# Altium footprint library SOIC.PcbLib: 11 footprints
Each footprint in its own frame and in the unit in brackets; x right, y up, seen from the top. Pads: shape width x height; smd on the part's side, far side on the other; paste and mask are expansions set on the pad; w line width, h text height; cw(c..) or ccw(c..) is an arc to the next point about the centre after c.
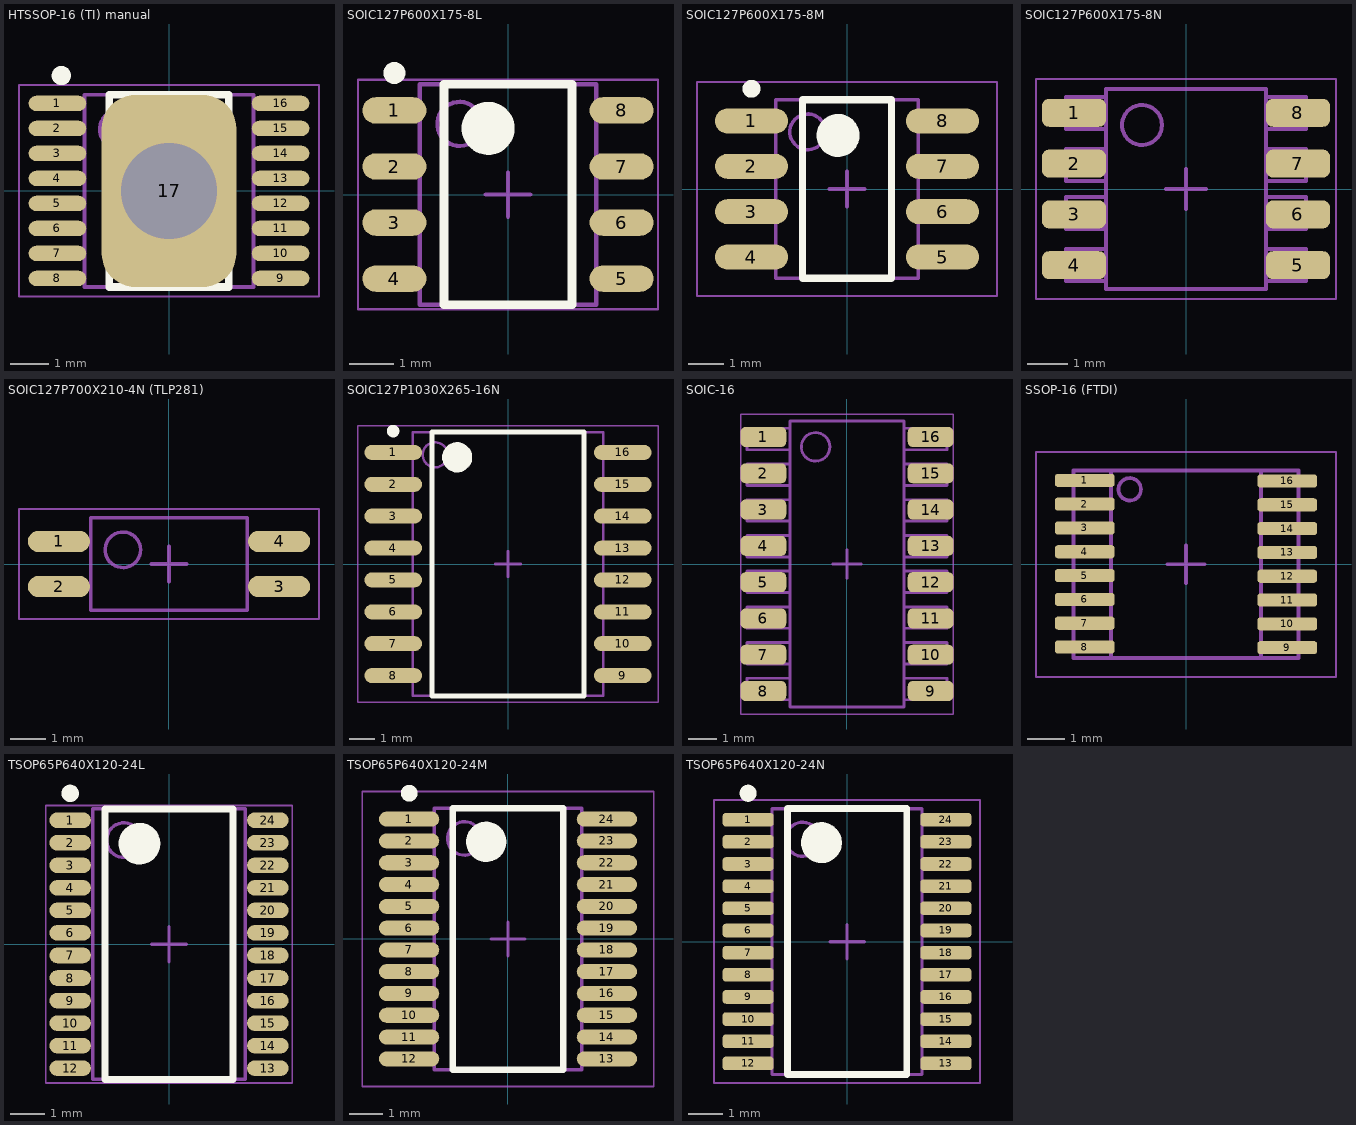
[diagram p0: the footprints below, top view; thin cyan lines are the x and y axes]

## HTSSOP-16 (TI) manual [mm] "TSOP, 16-Leads, Body 5.00x4.40mm, Pitch 0.65mm, Thermal Pad 0.00.2x0.00.2mm, IPC Medium Density"
height 1.2
pads (17):
  oval 1.5x0.4 smd: 1(-2.9,2.275) 2(-2.9,1.625) 3(-2.9,0.975) 4(-2.9,0.325) 5(-2.9,-0.325) 6(-2.9,-0.975) 7(-2.9,-1.625) 8(-2.9,-2.275) 9(2.9,-2.275) 10(2.9,-1.625) 11(2.9,-0.975) 12(2.9,-0.325) 13(2.9,0.325) 14(2.9,0.975) 15(2.9,1.625) 16(2.9,2.275)
  rrect50% 3.5x5 hole 2.5: 17(0,0)
Top Overlay:
  circle w0.6: c-0.55,1.5 r0.3
  circle w0.25: c-2.8,3 r0.125
  lines w0.2: -1.55,-2.5 1.55,-2.5 1.55,2.5 -1.55,2.5 -1.55,-2.5
Mechanical 4:
  text ".Designator" at -2.25,-0.25 h1
Mechanical 13:
  circle w0.1: c-1.3,1.6 r0.5
  lines w0.1: -2.2,-2.5 2.2,-2.5 2.2,2.5 -2.2,2.5 -2.2,-2.5
Mechanical 15:
  lines w0.05: -3.9,-2.75 3.9,-2.75 3.9,2.75 -3.9,2.75 -3.9,-2.75
  lines w0.1: -0.5,0 0.5,0 ; 0,-0.5 0,0.5
3D body: height 1, standoff 0, extent -3.21,-2.5 3.211,2.5

## SOIC127P600X175-8L [mm] "SOIC, 8-Leads, Body 4.90x3.90mm, Pitch 1.27mm, IPC High Density"
height 1.75
pads (8):
  oval 1.45x0.6 smd: 1(-2.575,1.905) 2(-2.575,0.635) 3(-2.575,-0.635) 4(-2.575,-1.905) 5(2.575,-1.905) 6(2.575,-0.635) 7(2.575,0.635) 8(2.575,1.905)
Top Overlay:
  circle w0.25: c-2.575,2.755 r0.125
  circle w0.6: c-0.45,1.5 r0.3
  lines w0.2: -1.45,-2.5 -1.45,2.5 1.45,2.5 1.45,-2.5 -1.45,-2.5
Mechanical 13:
  circle w0.1: c-1.1,1.6 r0.5
  lines w0.1: -2,-2.5 -2,2.5 2,2.5 2,-2.5 -2,-2.5
Mechanical 15:
  lines w0.05: -3.4,-2.6 -3.4,2.6 3.4,2.6 3.4,-2.6 -3.4,-2.6
  lines w0.1: -0.5,0 0.5,0 ; 0,-0.5 0,0.5
3D body: height 1.75, standoff 0.1, extent -2,-2.5 2,2.5

## SOIC127P600X175-8M [mm] "SOIC, 8-Leads, Body 4.90x3.90mm, Pitch 1.27mm, IPC Low Density"
height 1.75
pads (8):
  oval 2.05x0.7 smd: 1(-2.675,1.905) 2(-2.675,0.635) 3(-2.675,-0.635) 4(-2.675,-1.905) 5(2.675,-1.905) 6(2.675,-0.635) 7(2.675,0.635) 8(2.675,1.905)
Top Overlay:
  circle w0.6: c-0.25,1.5 r0.3
  circle w0.25: c-2.675,2.805 r0.125
  lines w0.2: -1.25,-2.5 1.25,-2.5 1.25,2.5 -1.25,2.5 -1.25,-2.5
Mechanical 13:
  circle w0.1: c-1.1,1.6 r0.5
  lines w0.1: -2,-2.5 2,-2.5 2,2.5 -2,2.5 -2,-2.5
Mechanical 15:
  lines w0.05: -4.2,-3 4.2,-3 4.2,3 -4.2,3 -4.2,-3
  lines w0.1: -0.5,0 0.5,0 ; 0,-0.5 0,0.5
3D body: height 1.75, standoff 0.1, extent -2,-2.5 2,2.5

## SOIC127P600X175-8N [mm] "SOIC, 8-Leads, Body 4.90x3.90mm, Pitch 1.27mm, IPC Medium Density"
height 1.75
pads (8):
  rrect50% 1.6x0.7 smd: 1(-2.8,1.905) 2(-2.8,0.635) 3(-2.8,-0.635) 4(-2.8,-1.905) 5(2.8,-1.905) 6(2.8,-0.635) 7(2.8,0.635) 8(2.8,1.905)
Mechanical 4:
  text ".Designator" at -2.25,-0.25 h1
Mechanical 13:
  circle w0.1: c-1.1,1.6 r0.5
  lines w0.1: -2,-2.3 -3,-2.3 -3,-1.5 -2,-1.5 ; -2,-1 -3,-1 -3,-0.2 -2,-0.2 ; -2,0.2 -3,0.2 -3,1 -2,1 ; -2,1.5 -3,1.5 -3,2.3 -2,2.3 ; 2,-2.3 3,-2.3 3,-1.5 2,-1.5 ; 2,-1 3,-1 3,-0.2 2,-0.2 ; 2,0.2 3,0.2 3,1 2,1 ; 2,1.5 3,1.5 3,2.3 2,2.3 ; -2,-2.5 -2,2.5 2,2.5 2,-2.5 -2,-2.5
Mechanical 15:
  lines w0.05: -3.75,-2.75 -3.75,2.75 3.75,2.75 3.75,-2.75 -3.75,-2.75
  lines w0.1: -0.5,0 0.5,0 ; 0,-0.5 0,0.5
3D body: height 1.63, standoff 0, extent -3,-2.45 3,2.45

## SOIC127P700X210-4N (TLP281) [mm] "SOIC, 4-Leads, Body 2.60x4.40mm, Pitch 1.27mm, IPC Medium Density"
height 2.1
pads (4):
  oval 1.75x0.6 smd: 1(-3.1,0.635) 2(-3.1,-0.635) 3(3.1,-0.635) 4(3.1,0.635)
Mechanical 4:
  text ".Designator" at -2.25,-0.25 h1
Mechanical 13:
  circle w0.1: c-1.3,0.4 r0.5
  lines w0.1: -2.2,-1.3 -2.2,1.3 2.2,1.3 2.2,-1.3 -2.2,-1.3
Mechanical 15:
  lines w0.05: -4.225,-1.55 -4.225,1.55 4.225,1.55 4.225,-1.55 -4.225,-1.55
  lines w0.1: -0.5,0 0.5,0 ; 0,-0.5 0,0.5
3D body: height 2, standoff 0.1, extent -3.5,-1.3 3.5,1.3

## SOIC127P1030X265-16N [mm] "SOIC, 16-Leads, Body 10.30x7.50mm, Pitch 1.27mm, IPC Medium Density"
height 2.65
pads (16):
  oval 2.3x0.6 smd: 1(-4.575,4.445) 2(-4.575,3.175) 3(-4.575,1.905) 4(-4.575,0.635) 5(-4.575,-0.635) 6(-4.575,-1.905) 7(-4.575,-3.175) 8(-4.575,-4.445) 9(4.575,-4.445) 10(4.575,-3.175) 11(4.575,-1.905) 12(4.575,-0.635) 13(4.575,0.635) 14(4.575,1.905) 15(4.575,3.175) 16(4.575,4.445)
Top Overlay:
  circle w0.6: c-2.025,4.25 r0.3
  circle w0.25: c-4.575,5.295 r0.125
  lines w0.2: -3.025,-5.25 3.025,-5.25 3.025,5.25 -3.025,5.25 -3.025,-5.25
Mechanical 13:
  circle w0.1: c-2.9,4.35 r0.5
  lines w0.1: -3.8,-5.25 3.8,-5.25 3.8,5.25 -3.8,5.25 -3.8,-5.25
Mechanical 15:
  lines w0.05: -5.975,-5.5 5.975,-5.5 5.975,5.5 -5.975,5.5 -5.975,-5.5
  lines w0.1: -0.5,0 0.5,0 ; 0,-0.5 0,0.5
3D body: height 2.62, standoff -0.03, extent -5.315,-5.25 5.315,5.25

## SOIC-16 [mm] "SOIC, 16-Leads, Body 10.00x4.00mm, Pitch 1.27mm, IPC Medium Density"
height 2
pads (16):
  rrect50% 1.6x0.7 smd: 1(-2.925,4.445) 2(-2.925,3.175) 3(-2.925,1.905) 4(-2.925,0.635) 5(-2.925,-0.635) 6(-2.925,-1.905) 7(-2.925,-3.175) 8(-2.925,-4.445) 9(2.925,-4.445) 10(2.925,-3.175) 11(2.925,-1.905) 12(2.925,-0.635) 13(2.925,0.635) 14(2.925,1.905) 15(2.925,3.175) 16(2.925,4.445)
Mechanical 13:
  circle w0.1: c-1.1,4.1 r0.5
  lines w0.1: -2,-4.75 -3.5,-4.75 -3.5,-4 -2,-4 ; -2,-3.5 -3.5,-3.5 -3.5,-2.75 -2,-2.75 ; -2,-2.25 -3.5,-2.25 -3.5,-1.5 -2,-1.5 ; -2,-1 -3.5,-1 -3.5,-0.25 -2,-0.25 ; -2,0.25 -3.5,0.25 -3.5,1 -2,1 ; -2,1.5 -3.5,1.5 -3.5,2.25 -2,2.25 ; -2,2.75 -3.5,2.75 -3.5,3.5 -2,3.5 ; -2,4 -3.5,4 -3.5,4.75 -2,4.75 ; 2,-4.75 3.5,-4.75 3.5,-4 2,-4 ; 2,-3.5 3.5,-3.5 3.5,-2.75 2,-2.75 ; 2,-2.25 3.5,-2.25 3.5,-1.5 2,-1.5 ; 2,-1 3.5,-1 3.5,-0.25 2,-0.25 ; 2,0.25 3.5,0.25 3.5,1 2,1 ; 2,1.5 3.5,1.5 3.5,2.25 2,2.25 ; 2,2.75 3.5,2.75 3.5,3.5 2,3.5 ; 2,4 3.5,4 3.5,4.75 2,4.75 ; -2,-5 2,-5 2,5 -2,5 -2,-5
Mechanical 15:
  lines w0.05: -3.725,-5.25 3.725,-5.25 3.725,5.25 -3.725,5.25 -3.725,-5.25
  lines w0.1: -0.5,0 0.5,0 ; 0,-0.5 0,0.5
3D body: height 1.75, standoff 0, extent -3.027,-4.95 3,4.95

## SSOP-16 (FTDI) [mm] "SOIC, 16-Leads, Body 10.30x7.50mm, Pitch 1.27mm, IPC Medium Density"
height 2.65
pads (16):
  rrect50% 1.6x0.35 smd: 1(-2.7,2.24) 2(-2.7,1.605) 3(-2.7,0.97) 4(-2.7,0.335) 5(-2.7,-0.3) 6(-2.7,-0.935) 7(-2.7,-1.57) 8(-2.7,-2.205) 9(2.7,-2.222) 10(2.7,-1.587) 11(2.7,-0.953) 12(2.7,-0.318) 13(2.7,0.318) 14(2.7,0.953) 15(2.7,1.587) 16(2.7,2.222)
Mechanical 4:
  text ".Designator" at -1.75,0 h1
Mechanical 13:
  circle w0.1: c-1.5,2 r0.3
  lines w0.1: -2,-2.5 -3,-2.5 -3,2.5 -2,2.5 ; -2,-2.5 2,-2.5 ; -2,-2.5 -2,2.5 ; -2,2.5 2,2.5 ; 2,-2.5 3,-2.5 3,2.5 2,2.5 ; 2,-2.5 2,2.5
Mechanical 15:
  lines w0.05: -4,-3 4,-3 4,3 -4,3 -4,-3
  lines w0.1: -0.5,0 0.5,0 ; 0,-0.5 0,0.5
3D body: height 1.1, standoff 0, extent -2.997,-2.489 2.997,2.489

## TSOP65P640X120-24L [mm] "TSOP, 24-Leads, Body 7.80x4.40mm, Pitch 0.65mm, IPC High Density"
height 1.2
pads (24):
  oval 1.2x0.45 smd: 1(-2.85,3.575) 2(-2.85,2.925) 3(-2.85,2.275) 4(-2.85,1.625) 5(-2.85,0.975) 6(-2.85,0.325) 7(-2.85,-0.325) 8(-2.85,-0.975) 9(-2.85,-1.625) 10(-2.85,-2.275) 11(-2.85,-2.925) 12(-2.85,-3.575) 13(2.85,-3.575) 14(2.85,-2.925) 15(2.85,-2.275) 16(2.85,-1.625) 17(2.85,-0.975) 18(2.85,-0.325) 19(2.85,0.325) 20(2.85,0.975) 21(2.85,1.625) 22(2.85,2.275) 23(2.85,2.925) 24(2.85,3.575)
Top Overlay:
  circle w0.6: c-0.85,2.9 r0.3
  circle w0.25: c-2.85,4.35 r0.125
  lines w0.2: -1.85,-3.9 1.85,-3.9 1.85,3.9 -1.85,3.9 -1.85,-3.9
Mechanical 13:
  circle w0.1: c-1.3,3 r0.5
  lines w0.1: -2.2,-3.9 2.2,-3.9 2.2,3.9 -2.2,3.9 -2.2,-3.9
Mechanical 15:
  lines w0.05: -3.55,-4 3.55,-4 3.55,4 -3.55,4 -3.55,-4
  lines w0.1: -0.5,0 0.5,0 ; 0,-0.5 0,0.5
3D body: height 1.2, standoff 0, extent -3.2,-3.9 3.2,3.9

## TSOP65P640X120-24M [mm] "TSOP, 24-Leads, Body 7.80x4.40mm, Pitch 0.65mm, IPC Low Density"
height 1.2
pads (24):
  oval 1.8x0.45 smd: 1(-2.95,3.575) 2(-2.95,2.925) 3(-2.95,2.275) 4(-2.95,1.625) 5(-2.95,0.975) 6(-2.95,0.325) 7(-2.95,-0.325) 8(-2.95,-0.975) 9(-2.95,-1.625) 10(-2.95,-2.275) 11(-2.95,-2.925) 12(-2.95,-3.575) 13(2.95,-3.575) 14(2.95,-2.925) 15(2.95,-2.275) 16(2.95,-1.625) 17(2.95,-0.975) 18(2.95,-0.325) 19(2.95,0.325) 20(2.95,0.975) 21(2.95,1.625) 22(2.95,2.275) 23(2.95,2.925) 24(2.95,3.575)
Top Overlay:
  circle w0.25: c-2.95,4.35 r0.125
  circle w0.6: c-0.65,2.9 r0.3
  lines w0.2: -1.65,-3.9 -1.65,3.9 1.65,3.9 1.65,-3.9 -1.65,-3.9
Mechanical 13:
  circle w0.1: c-1.3,3 r0.5
  lines w0.1: -2.2,-3.9 -2.2,3.9 2.2,3.9 2.2,-3.9 -2.2,-3.9
Mechanical 15:
  lines w0.05: -4.35,-4.4 -4.35,4.4 4.35,4.4 4.35,-4.4 -4.35,-4.4
  lines w0.1: -0.5,0 0.5,0 ; 0,-0.5 0,0.5
3D body: height 1.2, standoff 0, extent -3.2,-3.9 3.2,3.9

## TSOP65P640X120-24N [mm] "TSOP, 24-Leads, Body 7.80x4.40mm, Pitch 0.65mm, IPC Medium Density"
height 1.2
pads (24):
  rrect50% 1.5x0.4 smd: 1(-2.9,3.575) 2(-2.9,2.925) 3(-2.9,2.275) 4(-2.9,1.625) 5(-2.9,0.975) 6(-2.9,0.325) 7(-2.9,-0.325) 8(-2.9,-0.975) 9(-2.9,-1.625) 10(-2.9,-2.275) 11(-2.9,-2.925) 12(-2.9,-3.575) 13(2.9,-3.575) 14(2.9,-2.925) 15(2.9,-2.275) 16(2.9,-1.625) 17(2.9,-0.975) 18(2.9,-0.325) 19(2.9,0.325) 20(2.9,0.975) 21(2.9,1.625) 22(2.9,2.275) 23(2.9,2.925) 24(2.9,3.575)
Top Overlay:
  circle w0.6: c-0.75,2.9 r0.3
  circle w0.25: c-2.9,4.35 r0.125
  lines w0.2: -1.75,-3.9 1.75,-3.9 1.75,3.9 -1.75,3.9 -1.75,-3.9
Mechanical 4:
  text ".Designator" at -2,-0.25 h1
Mechanical 13:
  circle w0.1: c-1.3,3 r0.5
  lines w0.1: -2.2,-3.9 2.2,-3.9 2.2,3.9 -2.2,3.9 -2.2,-3.9
Mechanical 15:
  lines w0.05: -3.9,-4.15 3.9,-4.15 3.9,4.15 -3.9,4.15 -3.9,-4.15
  lines w0.1: -0.5,0 0.5,0 ; 0,-0.5 0,0.5
3D body: height 1.2, standoff 0, extent -3.2,-3.9 3.2,3.9